# Altium footprint library cd74hc4067_module.PcbLib: 2 footprints
Each footprint in its own frame and in the unit in brackets; x right, y up, seen from the top. Pads: shape width x height; smd on the part's side, far side on the other; paste and mask are expansions set on the pad; w line width, h text height; cw(c..) or ccw(c..) is an arc to the next point about the centre after c.
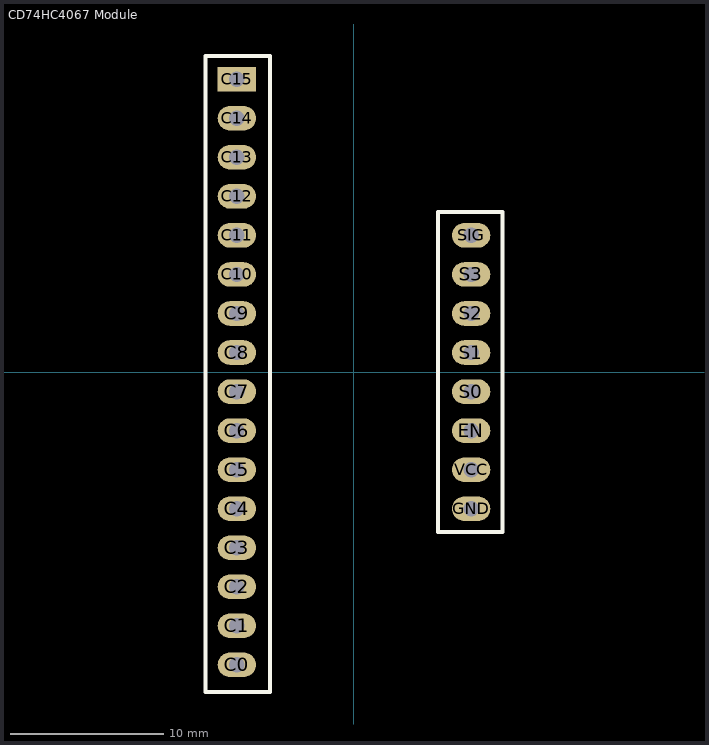
[diagram p0: the footprints below, top view; thin cyan lines are the x and y axes]

## CD74HC4067 Module [mm]
pads (24):
  oval 2.5x1.6 hole 1: C0(-7.62,-19.05) C1(-7.62,-16.51) C2(-7.62,-13.97) C3(-7.62,-11.43) C4(-7.62,-8.89) C5(-7.62,-6.35) C6(-7.62,-3.81) C7(-7.62,-1.27) C8(-7.62,1.27) C9(-7.62,3.81) C10(-7.62,6.35) C11(-7.62,8.89) C12(-7.62,11.43) C13(-7.62,13.97) C14(-7.62,16.51) EN(7.62,-3.81) GND(7.62,-8.89) S0(7.62,-1.27) S1(7.62,1.27) S2(7.62,3.81) S3(7.62,6.35) SIG(7.62,8.89) VCC(7.62,-6.35)
  rect 2.5x1.6 hole 1: C15(-7.62,19.05)
Top Overlay:
  lines w0.254: -9.652,-20.828 -5.461,-20.828 -5.461,20.574 -9.652,20.574 -9.652,-20.828 ; 5.461,-10.414 9.652,-10.414 9.652,10.414 5.461,10.414 5.461,-10.414
3D body "cd74hc4067_module.STEP": height 11.35, standoff 8.43, extent -8.89,-20.32 8.89,20.32

## PCBComponent_1 [mm]